# Altium schematic symbol library WE-TIS.SchLib: 33 symbols
Pins are listed as number, name and electrical type; pins without a type are passive.

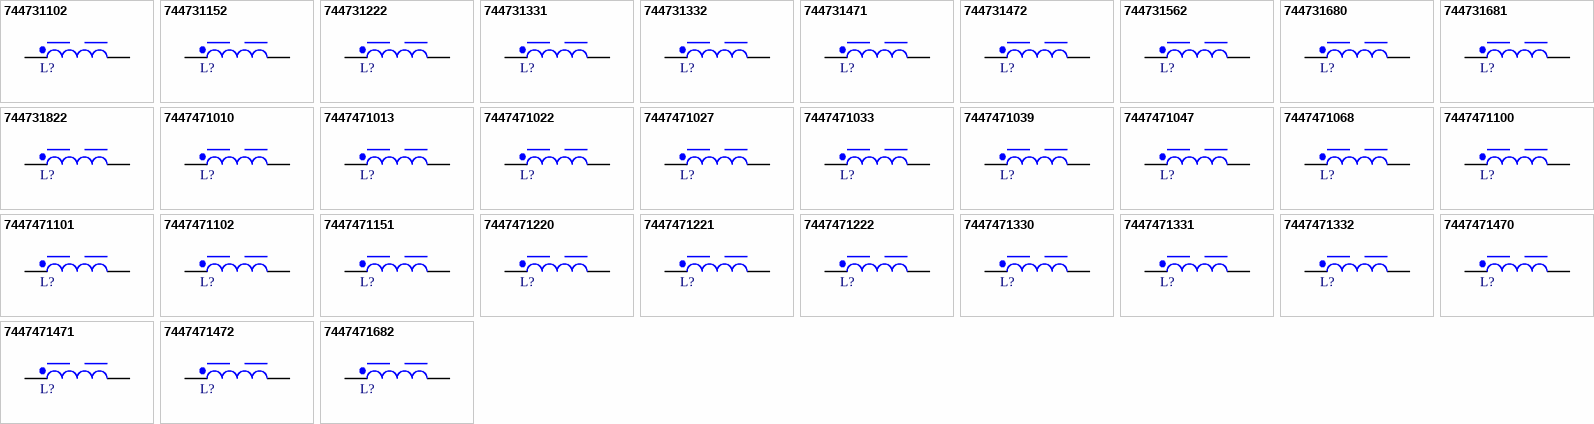
[diagram p0: symbols 744731102 to 7447471682]

## 744731102
designator L?, comment 1000uH, 0.35A  (value not drawn)
WE-TIS THT Radial Leaded Wire Wound Inductor, size 8075, 1000uH, 0.35A, 2.3Ohm; Manufacturer Part Number: 744731102; Manufacturer: Wurth Elektronik; Case/Size Code: 8075; DC Resistance: 1.85Ohm; Saturation Current: 0.25A; Self Resonant Frequency: 1.7MHz; Category: Power Inductors; Match Code: WE-TIS; ComponentLink1Description: Website Link; ComponentLink1URL: https://www.we-online.com/redexpert/article/744731102?ad; ComponentLink2Description: Datasheet Link; ComponentLink2URL: https://www.we-online.com/redexpert/spec/744731102?ad; Mount: Through Hole; Operating Temperature Max: 125°C; Operating Temperature Min: -40°C; Packaging: Tray; Height: 7.5mm; Diameter: 7.8mm; DC Resistance Max: 2.3Ohm; Inductance: 1000uH; Rated Current: 0.35A
footprint WE-TIS_8075
simulation model 8075_744731102_1000u
pins: 1, 2

## 744731152
designator L?, comment 1500uH, 0.4A  (value not drawn)
WE-TIS THT Radial Leaded Wire Wound Inductor, size 8075, 1500uH, 0.4A, 2.82Ohm; Manufacturer Part Number: 744731152; Manufacturer: Wurth Elektronik; Case/Size Code: 8075; DC Resistance: 2.3Ohm; Saturation Current: 0.2A; Self Resonant Frequency: 1.3MHz; Category: Power Inductors; Match Code: WE-TIS; ComponentLink1Description: Website Link; ComponentLink1URL: https://www.we-online.com/redexpert/article/744731152?ad; ComponentLink2Description: Datasheet Link; ComponentLink2URL: https://www.we-online.com/redexpert/spec/744731152?ad; Mount: Through Hole; Operating Temperature Max: 125°C; Operating Temperature Min: -40°C; Packaging: Tray; Height: 7.5mm; Diameter: 7.8mm; DC Resistance Max: 2.82Ohm; Inductance: 1500uH; Rated Current: 0.4A
footprint WE-TIS_8075
simulation model 8075_744731152_1500u
pins: 1, 2

## 744731222
designator L?, comment 2200uH, 0.2A  (value not drawn)
WE-TIS THT Radial Leaded Wire Wound Inductor, size 8075, 2200uH, 0.2A, 4.6Ohm; Manufacturer Part Number: 744731222; Manufacturer: Wurth Elektronik; Case/Size Code: 8075; DC Resistance: 3.8Ohm; Saturation Current: 0.18A; Self Resonant Frequency: 1.1MHz; Category: Power Inductors; Match Code: WE-TIS; ComponentLink1Description: Website Link; ComponentLink1URL: https://www.we-online.com/redexpert/article/744731222?ad; ComponentLink2Description: Datasheet Link; ComponentLink2URL: https://www.we-online.com/redexpert/spec/744731222?ad; Mount: Through Hole; Operating Temperature Max: 125°C; Operating Temperature Min: -40°C; Packaging: Tray; Height: 7.5mm; Diameter: 7.8mm; DC Resistance Max: 4.6Ohm; Inductance: 2200uH; Rated Current: 0.2A
footprint WE-TIS_8075
simulation model 8075_744731222_2200u
pins: 1, 2

## 744731331
designator L?, comment 330uH, 0.65A  (value not drawn)
WE-TIS THT Radial Leaded Wire Wound Inductor, size 8075, 330uH, 0.65A, 0.83Ohm; Manufacturer Part Number: 744731331; Manufacturer: Wurth Elektronik; Case/Size Code: 8075; DC Resistance: 0.65Ohm; Saturation Current: 0.45A; Self Resonant Frequency: 3.1MHz; Category: Power Inductors; Match Code: WE-TIS; ComponentLink1Description: Website Link; ComponentLink1URL: https://www.we-online.com/redexpert/article/744731331?ad; ComponentLink2Description: Datasheet Link; ComponentLink2URL: https://www.we-online.com/redexpert/spec/744731331?ad; Mount: Through Hole; Operating Temperature Max: 125°C; Operating Temperature Min: -40°C; Packaging: Tray; Height: 7.5mm; Diameter: 7.8mm; DC Resistance Max: 0.83Ohm; Inductance: 330uH; Rated Current: 0.65A
footprint WE-TIS_8075
simulation model 8075_744731331_330u
pins: 1, 2

## 744731332
designator L?, comment 3300uH, 0.18A  (value not drawn)
WE-TIS THT Radial Leaded Wire Wound Inductor, size 8075, 3300uH, 0.18A, 8Ohm; Manufacturer Part Number: 744731332; Manufacturer: Wurth Elektronik; Case/Size Code: 8075; DC Resistance: 6.2Ohm; Saturation Current: 0.15A; Self Resonant Frequency: 1MHz; Category: Power Inductors; Match Code: WE-TIS; ComponentLink1Description: Website Link; ComponentLink1URL: https://www.we-online.com/redexpert/article/744731332?ad; ComponentLink2Description: Datasheet Link; ComponentLink2URL: https://www.we-online.com/redexpert/spec/744731332?ad; Mount: Through Hole; Operating Temperature Max: 125°C; Operating Temperature Min: -40°C; Packaging: Tray; Height: 7.5mm; Diameter: 7.8mm; DC Resistance Max: 8Ohm; Inductance: 3300uH; Rated Current: 0.18A
footprint WE-TIS_8075
simulation model 8075_744731332_3300u
pins: 1, 2

## 744731471
designator L?, comment 470uH, 0.6A  (value not drawn)
WE-TIS THT Radial Leaded Wire Wound Inductor, size 8075, 470uH, 0.6A, 1.3Ohm; Manufacturer Part Number: 744731471; Manufacturer: Wurth Elektronik; Case/Size Code: 8075; DC Resistance: 0.8Ohm; Saturation Current: 0.4A; Self Resonant Frequency: 2.3MHz; Category: Power Inductors; Match Code: WE-TIS; ComponentLink1Description: Website Link; ComponentLink1URL: https://www.we-online.com/redexpert/article/744731471?ad; ComponentLink2Description: Datasheet Link; ComponentLink2URL: https://www.we-online.com/redexpert/spec/744731471?ad; Mount: Through Hole; Operating Temperature Max: 125°C; Operating Temperature Min: -40°C; Packaging: Tray; Height: 7.5mm; Diameter: 7.8mm; DC Resistance Max: 1.3Ohm; Inductance: 470uH; Rated Current: 0.6A
footprint WE-TIS_8075
simulation model 8075_744731471_470u
pins: 1, 2

## 744731472
designator L?, comment 4700uH, 0.16A  (value not drawn)
WE-TIS THT Radial Leaded Wire Wound Inductor, size 8075, 4700uH, 0.16A, 11.4Ohm; Manufacturer Part Number: 744731472; Manufacturer: Wurth Elektronik; Case/Size Code: 8075; DC Resistance: 9.1Ohm; Saturation Current: 0.14A; Self Resonant Frequency: 0.8MHz; Category: Power Inductors; Match Code: WE-TIS; ComponentLink1Description: Website Link; ComponentLink1URL: https://www.we-online.com/redexpert/article/744731472?ad; ComponentLink2Description: Datasheet Link; ComponentLink2URL: https://www.we-online.com/redexpert/spec/744731472?ad; Mount: Through Hole; Operating Temperature Max: 125°C; Operating Temperature Min: -40°C; Packaging: Tray; Height: 7.5mm; Diameter: 7.8mm; DC Resistance Max: 11.4Ohm; Inductance: 4700uH; Rated Current: 0.16A
footprint WE-TIS_8075
simulation model 8075_744731472_4700u
pins: 1, 2

## 744731562
designator L?, comment 5600uH, 0.13A  (value not drawn)
WE-TIS THT Radial Leaded Wire Wound Inductor, size 8075, 5600uH, 0.13A, 15.7Ohm; Manufacturer Part Number: 744731562; Manufacturer: Wurth Elektronik; Case/Size Code: 8075; DC Resistance: 12Ohm; Saturation Current: 0.07A; Self Resonant Frequency: 0.7MHz; Category: Power Inductors; Match Code: WE-TIS; ComponentLink1Description: Website Link; ComponentLink1URL: https://www.we-online.com/redexpert/article/744731562?ad; ComponentLink2Description: Datasheet Link; ComponentLink2URL: https://www.we-online.com/redexpert/spec/744731562?ad; Mount: Through Hole; Operating Temperature Max: 125°C; Operating Temperature Min: -40°C; Packaging: Tray; Height: 7.5mm; Diameter: 7.8mm; DC Resistance Max: 15.7Ohm; Inductance: 5600uH; Rated Current: 0.13A
footprint WE-TIS_8075
simulation model 8075_744731562_5600u
pins: 1, 2

## 744731680
designator L?, comment 68uH, 1.5A  (value not drawn)
WE-TIS THT Radial Leaded Wire Wound Inductor, size 8075, 68uH, 1.5A, 0.2Ohm; Manufacturer Part Number: 744731680; Manufacturer: Wurth Elektronik; Case/Size Code: 8075; DC Resistance: 0.17Ohm; Saturation Current: 1A; Self Resonant Frequency: 6.3MHz; Category: Power Inductors; Match Code: WE-TIS; ComponentLink1Description: Website Link; ComponentLink1URL: https://www.we-online.com/redexpert/article/744731680?ad; ComponentLink2Description: Datasheet Link; ComponentLink2URL: https://www.we-online.com/redexpert/spec/744731680?ad; Mount: Through Hole; Operating Temperature Max: 125°C; Operating Temperature Min: -40°C; Packaging: Tray; Height: 7.5mm; Diameter: 7.8mm; DC Resistance Max: 0.2Ohm; Inductance: 68uH; Rated Current: 1.5A
footprint WE-TIS_8075
simulation model 8075_744731680_68u
pins: 1, 2

## 744731681
designator L?, comment 680uH, 0.52A  (value not drawn)
WE-TIS THT Radial Leaded Wire Wound Inductor, size 8075, 680uH, 0.52A, 1.82Ohm; Manufacturer Part Number: 744731681; Manufacturer: Wurth Elektronik; Case/Size Code: 8075; DC Resistance: 1.3Ohm; Saturation Current: 0.2A; Self Resonant Frequency: 2.1MHz; Category: Power Inductors; Match Code: WE-TIS; ComponentLink1Description: Website Link; ComponentLink1URL: https://www.we-online.com/redexpert/article/744731681?ad; ComponentLink2Description: Datasheet Link; ComponentLink2URL: https://www.we-online.com/redexpert/spec/744731681?ad; Mount: Through Hole; Operating Temperature Max: 125°C; Operating Temperature Min: -40°C; Packaging: Tray; Height: 7.5mm; Diameter: 7.8mm; DC Resistance Max: 1.82Ohm; Inductance: 680uH; Rated Current: 0.52A
footprint WE-TIS_8075
simulation model 8075_744731681_680u
pins: 1, 2

## 744731822
designator L?, comment 8200uH, 0.1A  (value not drawn)
WE-TIS THT Radial Leaded Wire Wound Inductor, size 8075, 8200uH, 0.1A, 16Ohm; Manufacturer Part Number: 744731822; Manufacturer: Wurth Elektronik; Case/Size Code: 8075; DC Resistance: 12.5Ohm; Saturation Current: 0.05A; Self Resonant Frequency: 0.6MHz; Category: Power Inductors; Match Code: WE-TIS; ComponentLink1Description: Website Link; ComponentLink1URL: https://www.we-online.com/redexpert/article/744731822?ad; ComponentLink2Description: Datasheet Link; ComponentLink2URL: https://www.we-online.com/redexpert/spec/744731822?ad; Mount: Through Hole; Operating Temperature Max: 125°C; Operating Temperature Min: -40°C; Packaging: Tray; Height: 7.5mm; Diameter: 7.8mm; DC Resistance Max: 16Ohm; Inductance: 8200uH; Rated Current: 0.1A
footprint WE-TIS_8075
simulation model 8075_744731822_8200u
pins: 1, 2

## 7447471010
designator L?, comment 1uH, 10.5A  (value not drawn)
WE-TIS THT Radial Leaded Wire Wound Inductor, size 1111, 1uH, 10.5A, 0.008Ohm; Manufacturer Part Number: 7447471010; Manufacturer: Wurth Elektronik; Case/Size Code: 1111; DC Resistance: 0.005Ohm; Saturation Current: 22A; Self Resonant Frequency: 155MHz; Category: Power Inductors; Match Code: WE-TIS; ComponentLink1Description: Website Link; ComponentLink1URL: https://www.we-online.com/redexpert/article/7447471010?ad; ComponentLink2Description: Datasheet Link; ComponentLink2URL: https://www.we-online.com/redexpert/spec/7447471010?ad; Mount: Through Hole; Operating Temperature Max: 125°C; Operating Temperature Min: -40°C; Packaging: Tray; Height: 11.5mm; Diameter: 11mm; DC Resistance Max: 0.008Ohm; Inductance: 1uH; Rated Current: 10.5A
footprint WE-TIS_1111
simulation model 1111_7447471010_1u
pins: 1, 2

## 7447471013
designator L?, comment 1.3uH, 8.5A  (value not drawn)
WE-TIS THT Radial Leaded Wire Wound Inductor, size 1111, 1.3uH, 8.5A, 0.007Ohm; Manufacturer Part Number: 7447471013; Manufacturer: Wurth Elektronik; Case/Size Code: 1111; DC Resistance: 0.006Ohm; Saturation Current: 14A; Self Resonant Frequency: 100MHz; Category: Power Inductors; Match Code: WE-TIS; ComponentLink1Description: Website Link; ComponentLink1URL: https://www.we-online.com/redexpert/article/7447471013?ad; ComponentLink2Description: Datasheet Link; ComponentLink2URL: https://www.we-online.com/redexpert/spec/7447471013?ad; Mount: Through Hole; Operating Temperature Max: 125°C; Operating Temperature Min: -40°C; Packaging: Tray; Height: 11.5mm; Diameter: 11mm; DC Resistance Max: 0.007Ohm; Inductance: 1.3uH; Rated Current: 8.5A
footprint WE-TIS_1111
pins: 1, 2

## 7447471022
designator L?, comment 2.2uH, 8.2A  (value not drawn)
WE-TIS THT Radial Leaded Wire Wound Inductor, size 1111, 2.2uH, 8.2A, 0.0088Ohm; Manufacturer Part Number: 7447471022; Manufacturer: Wurth Elektronik; Case/Size Code: 1111; DC Resistance: 0.0075Ohm; Saturation Current: 10A; Self Resonant Frequency: 75MHz; Category: Power Inductors; Match Code: WE-TIS; ComponentLink1Description: Website Link; ComponentLink1URL: https://www.we-online.com/redexpert/article/7447471022?ad; ComponentLink2Description: Datasheet Link; ComponentLink2URL: https://www.we-online.com/redexpert/spec/7447471022?ad; Mount: Through Hole; Operating Temperature Max: 125°C; Operating Temperature Min: -40°C; Packaging: Tray; Height: 11.5mm; Diameter: 11mm; DC Resistance Max: 0.0088Ohm; Inductance: 2.2uH; Rated Current: 8.2A
footprint WE-TIS_1111
pins: 1, 2

## 7447471027
designator L?, comment 2.7uH, 8.2A  (value not drawn)
WE-TIS THT Radial Leaded Wire Wound Inductor, size 1111, 2.7uH, 8.2A, 0.011Ohm; Manufacturer Part Number: 7447471027; Manufacturer: Wurth Elektronik; Case/Size Code: 1111; DC Resistance: 0.009Ohm; Saturation Current: 13A; Self Resonant Frequency: 88MHz; Category: Power Inductors; Match Code: WE-TIS; ComponentLink1Description: Website Link; ComponentLink1URL: https://www.we-online.com/redexpert/article/7447471027?ad; ComponentLink2Description: Datasheet Link; ComponentLink2URL: https://www.we-online.com/redexpert/spec/7447471027?ad; Mount: Through Hole; Operating Temperature Max: 125°C; Operating Temperature Min: -40°C; Packaging: Tray; Height: 11.5mm; Diameter: 11mm; DC Resistance Max: 0.011Ohm; Inductance: 2.7uH; Rated Current: 8.2A
footprint WE-TIS_1111
simulation model 1111_7447471027_2.7u
pins: 1, 2

## 7447471033
designator L?, comment 3.3uH, 7.5A  (value not drawn)
WE-TIS THT Radial Leaded Wire Wound Inductor, size 1111, 3.3uH, 7.5A, 0.0106Ohm; Manufacturer Part Number: 7447471033; Manufacturer: Wurth Elektronik; Case/Size Code: 1111; DC Resistance: 0.009Ohm; Saturation Current: 8A; Self Resonant Frequency: 58MHz; Category: Power Inductors; Match Code: WE-TIS; ComponentLink1Description: Website Link; ComponentLink1URL: https://www.we-online.com/redexpert/article/7447471033?ad; ComponentLink2Description: Datasheet Link; ComponentLink2URL: https://www.we-online.com/redexpert/spec/7447471033?ad; Mount: Through Hole; Operating Temperature Max: 125°C; Operating Temperature Min: -40°C; Packaging: Tray; Height: 11.5mm; Diameter: 11mm; DC Resistance Max: 0.0106Ohm; Inductance: 3.3uH; Rated Current: 7.5A
footprint WE-TIS_1111
pins: 1, 2

## 7447471039
designator L?, comment 3.9uH, 7.7A  (value not drawn)
WE-TIS THT Radial Leaded Wire Wound Inductor, size 1111, 3.9uH, 7.7A, 0.013Ohm; Manufacturer Part Number: 7447471039; Manufacturer: Wurth Elektronik; Case/Size Code: 1111; DC Resistance: 0.011Ohm; Saturation Current: 11A; Self Resonant Frequency: 75MHz; Category: Power Inductors; Match Code: WE-TIS; ComponentLink1Description: Website Link; ComponentLink1URL: https://www.we-online.com/redexpert/article/7447471039?ad; ComponentLink2Description: Datasheet Link; ComponentLink2URL: https://www.we-online.com/redexpert/spec/7447471039?ad; Mount: Through Hole; Operating Temperature Max: 125°C; Operating Temperature Min: -40°C; Packaging: Tray; Height: 11.5mm; Diameter: 11mm; DC Resistance Max: 0.013Ohm; Inductance: 3.9uH; Rated Current: 7.7A
footprint WE-TIS_1111
simulation model 1111_7447471039_3.9u
pins: 1, 2

## 7447471047
designator L?, comment 4.7uH, 7.1A  (value not drawn)
WE-TIS THT Radial Leaded Wire Wound Inductor, size 1111, 4.7uH, 7.1A, 0.015Ohm; Manufacturer Part Number: 7447471047; Manufacturer: Wurth Elektronik; Case/Size Code: 1111; DC Resistance: 0.012Ohm; Saturation Current: 9.9A; Self Resonant Frequency: 62MHz; Category: Power Inductors; Match Code: WE-TIS; ComponentLink1Description: Website Link; ComponentLink1URL: https://www.we-online.com/redexpert/article/7447471047?ad; ComponentLink2Description: Datasheet Link; ComponentLink2URL: https://www.we-online.com/redexpert/spec/7447471047?ad; Mount: Through Hole; Operating Temperature Max: 125°C; Operating Temperature Min: -40°C; Packaging: Tray; Height: 11.5mm; Diameter: 11mm; DC Resistance Max: 0.015Ohm; Inductance: 4.7uH; Rated Current: 7.1A
footprint WE-TIS_1111
simulation model 1111_7447471047_4.7u
pins: 1, 2

## 7447471068
designator L?, comment 6.8uH, 6A  (value not drawn)
WE-TIS THT Radial Leaded Wire Wound Inductor, size 1111, 6.8uH, 6A, 0.019Ohm; Manufacturer Part Number: 7447471068; Manufacturer: Wurth Elektronik; Case/Size Code: 1111; DC Resistance: 0.016Ohm; Saturation Current: 8A; Self Resonant Frequency: 53MHz; Category: Power Inductors; Match Code: WE-TIS; ComponentLink1Description: Website Link; ComponentLink1URL: https://www.we-online.com/redexpert/article/7447471068?ad; ComponentLink2Description: Datasheet Link; ComponentLink2URL: https://www.we-online.com/redexpert/spec/7447471068?ad; Mount: Through Hole; Operating Temperature Max: 125°C; Operating Temperature Min: -40°C; Packaging: Tray; Height: 11.5mm; Diameter: 11mm; DC Resistance Max: 0.019Ohm; Inductance: 6.8uH; Rated Current: 6A
footprint WE-TIS_1111
simulation model 1111_7447471068_6.8u
pins: 1, 2

## 7447471100
designator L?, comment 10uH, 5A  (value not drawn)
WE-TIS THT Radial Leaded Wire Wound Inductor, size 1111, 10uH, 5A, 0.026Ohm; Manufacturer Part Number: 7447471100; Manufacturer: Wurth Elektronik; Case/Size Code: 1111; DC Resistance: 0.024Ohm; Saturation Current: 6.6A; Self Resonant Frequency: 46MHz; Category: Power Inductors; Match Code: WE-TIS; ComponentLink1Description: Website Link; ComponentLink1URL: https://www.we-online.com/redexpert/article/7447471100?ad; ComponentLink2Description: Datasheet Link; ComponentLink2URL: https://www.we-online.com/redexpert/spec/7447471100?ad; Mount: Through Hole; Operating Temperature Max: 125°C; Operating Temperature Min: -40°C; Packaging: Tray; Height: 11.5mm; Diameter: 11mm; DC Resistance Max: 0.026Ohm; Inductance: 10uH; Rated Current: 5A
footprint WE-TIS_1111
simulation model 1111_7447471100_10u
pins: 1, 2

## 7447471101
designator L?, comment 100uH, 1.4A  (value not drawn)
WE-TIS THT Radial Leaded Wire Wound Inductor, size 1111, 100uH, 1.4A, 0.24Ohm; Manufacturer Part Number: 7447471101; Manufacturer: Wurth Elektronik; Case/Size Code: 1111; DC Resistance: 0.21Ohm; Saturation Current: 2.1A; Self Resonant Frequency: 4MHz; Category: Power Inductors; Match Code: WE-TIS; ComponentLink1Description: Website Link; ComponentLink1URL: https://www.we-online.com/redexpert/article/7447471101?ad; ComponentLink2Description: Datasheet Link; ComponentLink2URL: https://www.we-online.com/redexpert/spec/7447471101?ad; Mount: Through Hole; Operating Temperature Max: 125°C; Operating Temperature Min: -40°C; Packaging: Tray; Height: 11.5mm; Diameter: 11mm; DC Resistance Max: 0.24Ohm; Inductance: 100uH; Rated Current: 1.4A
footprint WE-TIS_1111
simulation model 1111_7447471101_100u
pins: 1, 2

## 7447471102
designator L?, comment 1000uH, 0.46A  (value not drawn)
WE-TIS THT Radial Leaded Wire Wound Inductor, size 1111, 1000uH, 0.46A, 2.5Ohm; Manufacturer Part Number: 7447471102; Manufacturer: Wurth Elektronik; Case/Size Code: 1111; DC Resistance: 2.1Ohm; Saturation Current: 0.68A; Self Resonant Frequency: 1.1MHz; Category: Power Inductors; Match Code: WE-TIS; ComponentLink1Description: Website Link; ComponentLink1URL: https://www.we-online.com/redexpert/article/7447471102?ad; ComponentLink2Description: Datasheet Link; ComponentLink2URL: https://www.we-online.com/redexpert/spec/7447471102?ad; Mount: Through Hole; Operating Temperature Max: 125°C; Operating Temperature Min: -40°C; Packaging: Tray; Height: 11.5mm; Diameter: 11mm; DC Resistance Max: 2.5Ohm; Inductance: 1000uH; Rated Current: 0.46A
footprint WE-TIS_1111
simulation model 1111_7447471102_1000u
pins: 1, 2

## 7447471151
designator L?, comment 150uH, 1.2A  (value not drawn)
WE-TIS THT Radial Leaded Wire Wound Inductor, size 1111, 150uH, 1.2A, 0.34Ohm; Manufacturer Part Number: 7447471151; Manufacturer: Wurth Elektronik; Case/Size Code: 1111; DC Resistance: 0.29Ohm; Saturation Current: 1.7A; Self Resonant Frequency: 3.3MHz; Category: Power Inductors; Match Code: WE-TIS; ComponentLink1Description: Website Link; ComponentLink1URL: https://www.we-online.com/redexpert/article/7447471151?ad; ComponentLink2Description: Datasheet Link; ComponentLink2URL: https://www.we-online.com/redexpert/spec/7447471151?ad; Mount: Through Hole; Operating Temperature Max: 125°C; Operating Temperature Min: -40°C; Packaging: Tray; Height: 11.5mm; Diameter: 11mm; DC Resistance Max: 0.34Ohm; Inductance: 150uH; Rated Current: 1.2A
footprint WE-TIS_1111
simulation model 1111_7447471151_150u
pins: 1, 2

## 7447471220
designator L?, comment 22uH, 3.8A  (value not drawn)
WE-TIS THT Radial Leaded Wire Wound Inductor, size 1111, 22uH, 3.8A, 0.04Ohm; Manufacturer Part Number: 7447471220; Manufacturer: Wurth Elektronik; Case/Size Code: 1111; DC Resistance: 0.035Ohm; Saturation Current: 4.4A; Self Resonant Frequency: 16MHz; Category: Power Inductors; Match Code: WE-TIS; ComponentLink1Description: Website Link; ComponentLink1URL: https://www.we-online.com/redexpert/article/7447471220?ad; ComponentLink2Description: Datasheet Link; ComponentLink2URL: https://www.we-online.com/redexpert/spec/7447471220?ad; Mount: Through Hole; Operating Temperature Max: 125°C; Operating Temperature Min: -40°C; Packaging: Tray; Height: 11.5mm; Diameter: 11mm; DC Resistance Max: 0.04Ohm; Inductance: 22uH; Rated Current: 3.8A
footprint WE-TIS_1111
simulation model 1111_7447471220_22u
pins: 1, 2

## 7447471221
designator L?, comment 220uH, 1A  (value not drawn)
WE-TIS THT Radial Leaded Wire Wound Inductor, size 1111, 220uH, 1A, 0.51Ohm; Manufacturer Part Number: 7447471221; Manufacturer: Wurth Elektronik; Case/Size Code: 1111; DC Resistance: 0.43Ohm; Saturation Current: 1.4A; Self Resonant Frequency: 2.6MHz; Category: Power Inductors; Match Code: WE-TIS; ComponentLink1Description: Website Link; ComponentLink1URL: https://www.we-online.com/redexpert/article/7447471221?ad; ComponentLink2Description: Datasheet Link; ComponentLink2URL: https://www.we-online.com/redexpert/spec/7447471221?ad; Mount: Through Hole; Operating Temperature Max: 125°C; Operating Temperature Min: -40°C; Packaging: Tray; Height: 11.5mm; Diameter: 11mm; DC Resistance Max: 0.51Ohm; Inductance: 220uH; Rated Current: 1A
footprint WE-TIS_1111
simulation model 1111_7447471221_220u
pins: 1, 2

## 7447471222
designator L?, comment 2200uH, 0.31A  (value not drawn)
WE-TIS THT Radial Leaded Wire Wound Inductor, size 1111, 2200uH, 0.31A, 5.7Ohm; Manufacturer Part Number: 7447471222; Manufacturer: Wurth Elektronik; Case/Size Code: 1111; DC Resistance: 4.7Ohm; Saturation Current: 0.46A; Self Resonant Frequency: 0.74MHz; Category: Power Inductors; Match Code: WE-TIS; ComponentLink1Description: Website Link; ComponentLink1URL: https://www.we-online.com/redexpert/article/7447471222?ad; ComponentLink2Description: Datasheet Link; ComponentLink2URL: https://www.we-online.com/redexpert/spec/7447471222?ad; Mount: Through Hole; Operating Temperature Max: 125°C; Operating Temperature Min: -40°C; Packaging: Tray; Height: 11.5mm; Diameter: 11mm; DC Resistance Max: 5.7Ohm; Inductance: 2200uH; Rated Current: 0.31A
footprint WE-TIS_1111
simulation model 1111_7447471222_2200u
pins: 1, 2

## 7447471330
designator L?, comment 33uH, 3A  (value not drawn)
WE-TIS THT Radial Leaded Wire Wound Inductor, size 1111, 33uH, 3A, 0.065Ohm; Manufacturer Part Number: 7447471330; Manufacturer: Wurth Elektronik; Case/Size Code: 1111; DC Resistance: 0.057Ohm; Saturation Current: 3.6A; Self Resonant Frequency: 9.7MHz; Category: Power Inductors; Match Code: WE-TIS; ComponentLink1Description: Website Link; ComponentLink1URL: https://www.we-online.com/redexpert/article/7447471330?ad; ComponentLink2Description: Datasheet Link; ComponentLink2URL: https://www.we-online.com/redexpert/spec/7447471330?ad; Mount: Through Hole; Operating Temperature Max: 125°C; Operating Temperature Min: -40°C; Packaging: Tray; Height: 11.5mm; Diameter: 11mm; DC Resistance Max: 0.065Ohm; Inductance: 33uH; Rated Current: 3A
footprint WE-TIS_1111
simulation model 1111_7447471330_33u
pins: 1, 2

## 7447471331
designator L?, comment 330uH, 0.8A  (value not drawn)
WE-TIS THT Radial Leaded Wire Wound Inductor, size 1111, 330uH, 0.8A, 0.81Ohm; Manufacturer Part Number: 7447471331; Manufacturer: Wurth Elektronik; Case/Size Code: 1111; DC Resistance: 0.67Ohm; Saturation Current: 1.1A; Self Resonant Frequency: 2.1MHz; Category: Power Inductors; Match Code: WE-TIS; ComponentLink1Description: Website Link; ComponentLink1URL: https://www.we-online.com/redexpert/article/7447471331?ad; ComponentLink2Description: Datasheet Link; ComponentLink2URL: https://www.we-online.com/redexpert/spec/7447471331?ad; Mount: Through Hole; Operating Temperature Max: 125°C; Operating Temperature Min: -40°C; Packaging: Tray; Height: 11.5mm; Diameter: 11mm; DC Resistance Max: 0.81Ohm; Inductance: 330uH; Rated Current: 0.8A
footprint WE-TIS_1111
simulation model 1111_7447471331_330u
pins: 1, 2

## 7447471332
designator L?, comment 3300uH, 0.25A  (value not drawn)
WE-TIS THT Radial Leaded Wire Wound Inductor, size 1111, 3300uH, 0.25A, 8.6Ohm; Manufacturer Part Number: 7447471332; Manufacturer: Wurth Elektronik; Case/Size Code: 1111; DC Resistance: 7Ohm; Saturation Current: 0.38A; Self Resonant Frequency: 0.62MHz; Category: Power Inductors; Match Code: WE-TIS; ComponentLink1Description: Website Link; ComponentLink1URL: https://www.we-online.com/redexpert/article/7447471332?ad; ComponentLink2Description: Datasheet Link; ComponentLink2URL: https://www.we-online.com/redexpert/spec/7447471332?ad; Mount: Through Hole; Operating Temperature Max: 125°C; Operating Temperature Min: -40°C; Packaging: Tray; Height: 11.5mm; Diameter: 11mm; DC Resistance Max: 8.6Ohm; Inductance: 3300uH; Rated Current: 0.25A
footprint WE-TIS_1111
simulation model 1111_7447471332_3300u
pins: 1, 2

## 7447471470
designator L?, comment 47uH, 2.3A  (value not drawn)
WE-TIS THT Radial Leaded Wire Wound Inductor, size 1111, 47uH, 2.3A, 0.1Ohm; Manufacturer Part Number: 7447471470; Manufacturer: Wurth Elektronik; Case/Size Code: 1111; DC Resistance: 0.086Ohm; Saturation Current: 3A; Self Resonant Frequency: 6.4MHz; Category: Power Inductors; Match Code: WE-TIS; ComponentLink1Description: Website Link; ComponentLink1URL: https://www.we-online.com/redexpert/article/7447471470?ad; ComponentLink2Description: Datasheet Link; ComponentLink2URL: https://www.we-online.com/redexpert/spec/7447471470?ad; Mount: Through Hole; Operating Temperature Max: 125°C; Operating Temperature Min: -40°C; Packaging: Tray; Height: 11.5mm; Diameter: 11mm; DC Resistance Max: 0.1Ohm; Inductance: 47uH; Rated Current: 2.3A
footprint WE-TIS_1111
simulation model 1111_7447471470_47u
pins: 1, 2

## 7447471471
designator L?, comment 470uH, 0.68A  (value not drawn)
WE-TIS THT Radial Leaded Wire Wound Inductor, size 1111, 470uH, 0.68A, 1.2Ohm; Manufacturer Part Number: 7447471471; Manufacturer: Wurth Elektronik; Case/Size Code: 1111; DC Resistance: 0.96Ohm; Saturation Current: 0.98A; Self Resonant Frequency: 1.6MHz; Category: Power Inductors; Match Code: WE-TIS; ComponentLink1Description: Website Link; ComponentLink1URL: https://www.we-online.com/redexpert/article/7447471471?ad; ComponentLink2Description: Datasheet Link; ComponentLink2URL: https://www.we-online.com/redexpert/spec/7447471471?ad; Mount: Through Hole; Operating Temperature Max: 125°C; Operating Temperature Min: -40°C; Packaging: Tray; Height: 11.5mm; Diameter: 11mm; DC Resistance Max: 1.2Ohm; Inductance: 470uH; Rated Current: 0.68A
footprint WE-TIS_1111
simulation model 1111_7447471471_470u
pins: 1, 2

## 7447471472
designator L?, comment 4700uH, 0.21A  (value not drawn)
WE-TIS THT Radial Leaded Wire Wound Inductor, size 1111, 4700uH, 0.21A, 12Ohm; Manufacturer Part Number: 7447471472; Manufacturer: Wurth Elektronik; Case/Size Code: 1111; DC Resistance: 9.9Ohm; Saturation Current: 0.32A; Self Resonant Frequency: 0.49MHz; Category: Power Inductors; Match Code: WE-TIS; ComponentLink1Description: Website Link; ComponentLink1URL: https://www.we-online.com/redexpert/article/7447471472?ad; ComponentLink2Description: Datasheet Link; ComponentLink2URL: https://www.we-online.com/redexpert/spec/7447471472?ad; Mount: Through Hole; Operating Temperature Max: 125°C; Operating Temperature Min: -40°C; Packaging: Tray; Height: 11.5mm; Diameter: 11mm; DC Resistance Max: 12Ohm; Inductance: 4700uH; Rated Current: 0.21A
footprint WE-TIS_1111
simulation model 1111_7447471472_4700u
pins: 1, 2

## 7447471682
designator L?, comment 6800uH, 0.18A  (value not drawn)
WE-TIS THT Radial Leaded Wire Wound Inductor, size 1111, 6800uH, 0.18A, 14.5Ohm; Manufacturer Part Number: 7447471682; Manufacturer: Wurth Elektronik; Case/Size Code: 1111; DC Resistance: 13.3Ohm; Saturation Current: 0.27A; Self Resonant Frequency: 0.41MHz; Category: Power Inductors; Match Code: WE-TIS; ComponentLink1Description: Website Link; ComponentLink1URL: https://www.we-online.com/redexpert/article/7447471682?ad; ComponentLink2Description: Datasheet Link; ComponentLink2URL: https://www.we-online.com/redexpert/spec/7447471682?ad; Mount: Through Hole; Operating Temperature Max: 125°C; Operating Temperature Min: -40°C; Packaging: Tray; Height: 11.5mm; Diameter: 11mm; DC Resistance Max: 14.5Ohm; Inductance: 6800uH; Rated Current: 0.18A
footprint WE-TIS_1111
simulation model 1111_7447471682_6800u
pins: 1, 2